# EAGLE library part BD9G101G (library BD9G101G)
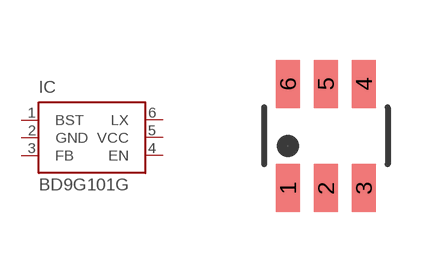
[diagram p0: symbol with the pads of SSOP6; footprint SSOP6]

Designator prefix IC

## BD9G101G  [SSOP6]
1  BST
2  GND
3  FB
4  EN
5  VCC
6  LX

## Footprint SSOP6 (pad centres in mm)
smd 0.6 x 1.2: 1 -0.95,-1.306; 2 0,-1.306; 3 0.95,-1.306; 4 0.95,1.306; 5 0,1.306; 6 -0.95,1.306